# EAGLE library part ADS7816P (library burr-brown)
12-Bit 200 kSPS ADC
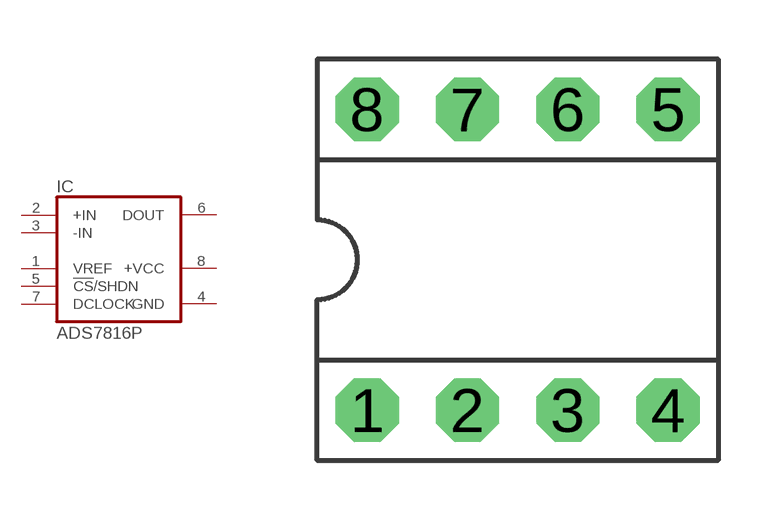
[diagram p42: symbol with the pads of DIP-08; footprint DIP-08]

Designator prefix IC

## ADS7816P  [DIP-08]
1  VREF  in
2  +IN  in
3  -IN  in
4  GND  pwr
5  !CS!/SHDN  in
6  DOUT  out
7  DCLOCK  in
8  +VCC  pwr

## Footprint DIP-08 (pad centres in mm)
drill 0.813 pad 1.6 octagon: 1 -3.81,-3.81; 2 -1.27,-3.81; 3 1.27,-3.81; 4 3.81,-3.81; 5 3.81,3.81; 6 1.27,3.81; 7 -1.27,3.81; 8 -3.81,3.81